# Altium schematic symbol library controls.SchLib: 3 symbols
Pins are listed as number, name and electrical type; pins without a type are passive.

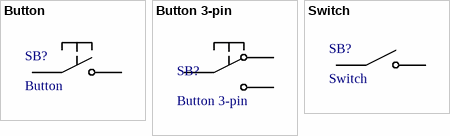
[diagram p0: symbols Button to Switch]

## Button
designator SB?
footprint BUTTON_SMD_3x6; pin to pad 3>1 4>2
footprint BUTTON_SMD_6x6; pin to pad 2>3 3>2
pins: 1, 2, 3, 4

## Button 3-pin
designator SB?
pins: 1, 2, 3

## Switch
designator SB?
pins: 1, 2, 3, 4